# Altium footprint library SC_SDIP8.PcbLib: 1 footprints
Each footprint in its own frame and in the unit in brackets; x right, y up, seen from the top. Pads: shape width x height; smd on the part's side, far side on the other; paste and mask are expansions set on the pad; w line width, h text height; cw(c..) or ccw(c..) is an arc to the next point about the centre after c.
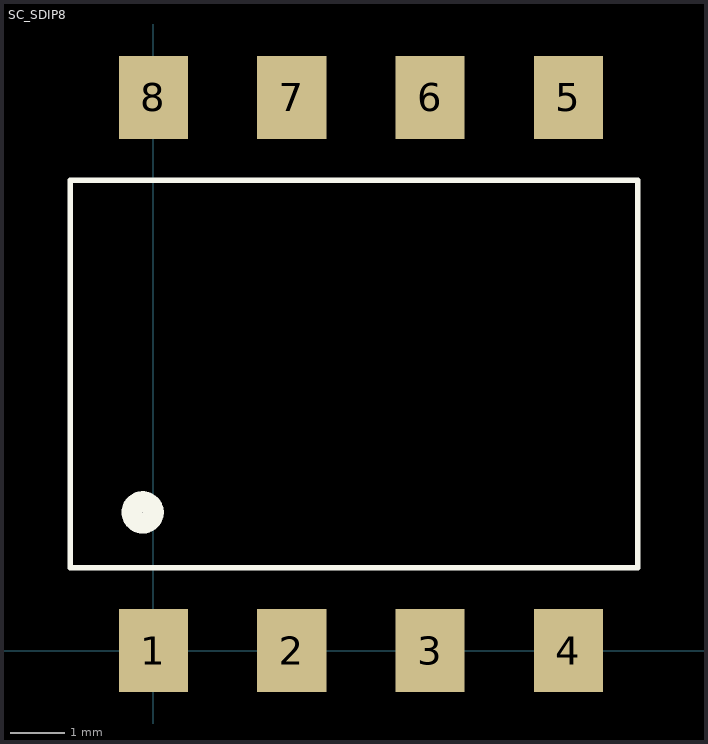
[diagram p0: the footprint, top view; thin cyan lines are the x and y axes]

## SC_SDIP8 [mil]
pads (8):
  rect 50x60 smd: 1(0,0) 2(100,0) 3(200,0) 4(300,0) 5(300,400) 6(200,400) 7(100,400) 8(0,400)
Top Overlay:
  circle w14.96: c-7.81,100 r7.81
  lines w4: -60,60 350,60 350,340 -60,340 -60,60